# Altium footprint library PcbMP1584.PcbLib: 1 footprints
Each footprint in its own frame and in the unit in brackets; x right, y up, seen from the top. Pads: shape width x height; smd on the part's side, far side on the other; paste and mask are expansions set on the pad; w line width, h text height; cw(c..) or ccw(c..) is an arc to the next point about the centre after c.
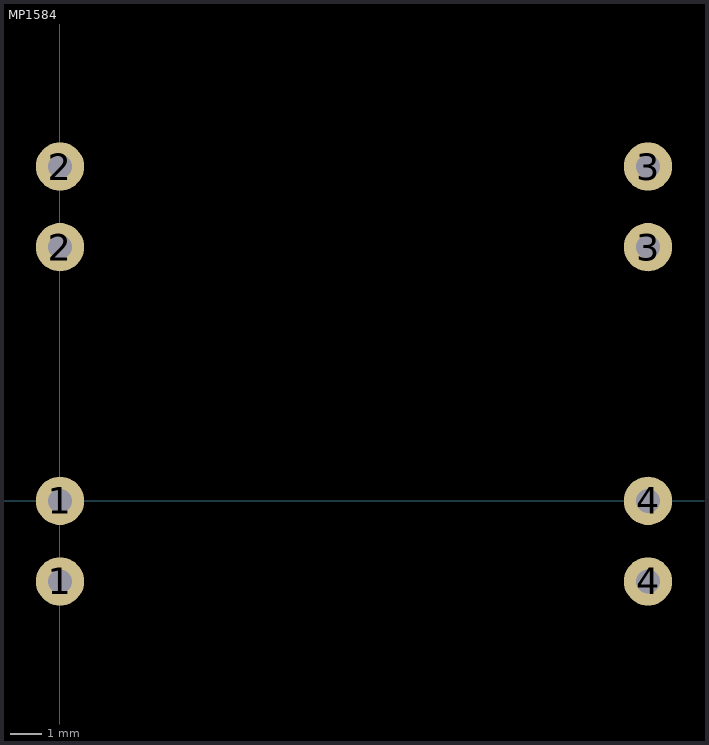
[diagram p0: the footprint, top view; thin cyan lines are the x and y axes]

## MP1584 [mil]
pads (8):
  round 60 hole 30: 1(0,-100) 1(0,0) 2(0,314.96) 2(0,414.96) 3(729.92,314.96) 3(729.92,414.96) 4(729.92,-100) 4(729.92,0)
3D body "D-SUN_dcdc_step_down_SIMPLE.step": height 161.42, standoff 0, extent -65.03,-170.7 805.05,490.71